# Altium schematic symbol library UA78M05IDCYR.SchLib: 1 symbol
Pins are listed as number, name and electrical type; pins without a type are passive.

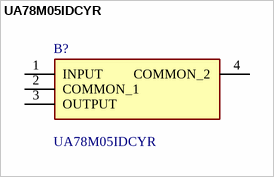
[diagram p0: symbol UA78M05IDCYR]

## UA78M05IDCYR
designator B?
500-mA, 25-V, Linear Voltage Regulators; Manufacturer_Name: Texas Instruments; Geometry.Height: 1.8mm; Mouser Part Number: 595-UA78M05IDCYR; Mouser Price/Stock: https://www.mouser.co.uk/ProductDetail/Texas-Instruments/UA78M05IDCYR?qs=0O%2FZFlpUpJXf0Y5v1qo1ow%3D%3D; Manufacturer_Part_Number: UA78M05IDCYR; Datasheet Link: http://www.ti.com/lit/gpn/ua78m
footprint SOT230P700X180-4N
pins: 1 INPUT, 2 COMMON_1, 3 OUTPUT, 4 COMMON_2